# Altium schematic symbol library WSLP0603R0680FEA.SchLib: 1 symbol
Pins are listed as number, name and electrical type; pins without a type are passive.

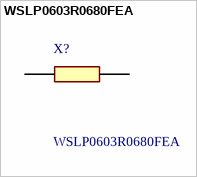
[diagram p0: symbol WSLP0603R0680FEA]

## WSLP0603R0680FEA
designator X?
Res Metal Strip 0603 0.068 Ohm 1% 0.4W +/-75ppm/C Sulfur Resistant Pad SMD Automotive T/R; Manufacturer_Name: Vishay; Geometry.Height: 0.533mm; Mouser Part Number: 71-WSLP0603R0680FEA; Mouser Price/Stock: https://www.mouser.co.uk/ProductDetail/Vishay-Dale/WSLP0603R0680FEA?qs=3QSWoE95KdnH2xT%252BrvS3cw%3D%3D; Manufacturer_Part_Number: WSLP0603R0680FEA; Datasheet Link: https://www.arrow.com/en/products/wslp0603r0680fea/vishay?region=nac
footprint RESC1508X53N
pins: 1, 2